# Altium footprint library RFModule.PcbLib: 6 footprints
Each footprint in its own frame and in the unit in brackets; x right, y up, seen from the top. Pads: shape width x height; smd on the part's side, far side on the other; paste and mask are expansions set on the pad; w line width, h text height; cw(c..) or ccw(c..) is an arc to the next point about the centre after c.
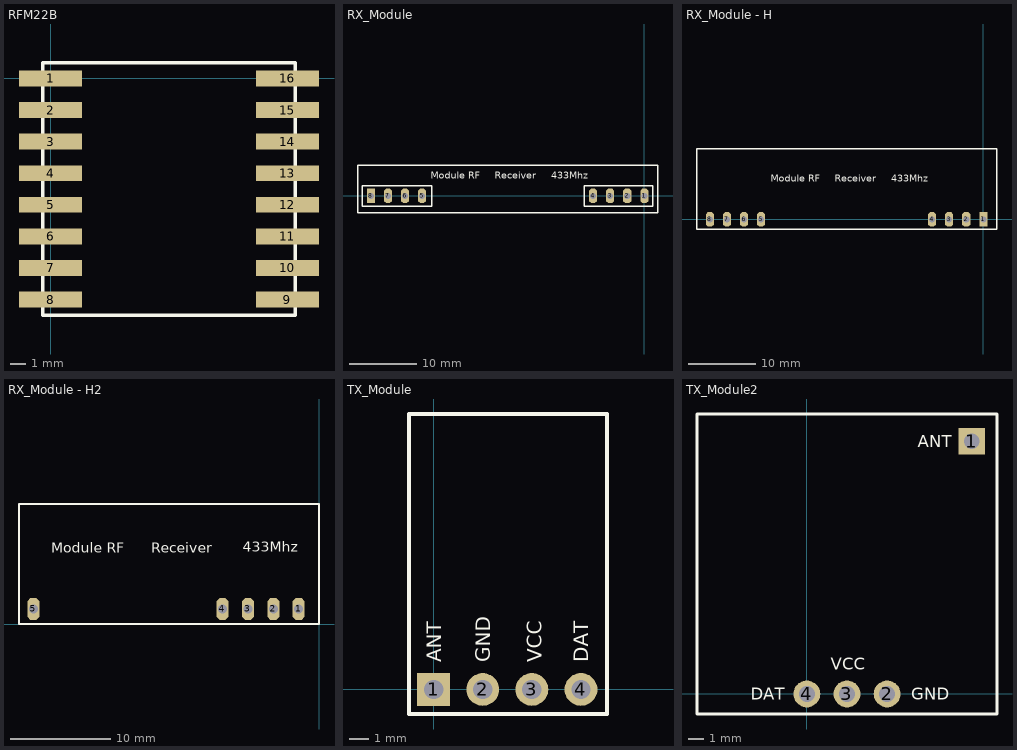
[diagram p0: the footprints below, top view; thin cyan lines are the x and y axes]

## RFM22B [mm] "DIP; 8 Leads; Row Spacing 7.62 mm; Pitch 2.54 mm"
height 5.09
pads (16):
  rect 4x1 smd: 1(0,0) 2(0,-2) 3(0,-4) 4(0,-6) 5(0,-8) 6(0,-10) 7(0,-12) 8(0,-14) 9(15,-14) 10(15,-12) 11(15,-10) 12(15,-8) 13(15,-6) 14(15,-4) 15(15,-2) 16(15,0)
Top Overlay:
  lines w0.2: -0.5,-15 -0.5,1 15.5,1 15.5,-15 -0.5,-15

## RX_Module [mm] "DIP; 8 Leads; Row Spacing 7.62 mm; Pitch 2.54 mm"
height 5.09
pads (8):
  oct 1.2x2.2 hole 0.9: 1(0,0) 2(-2.54,0) 3(-5.08,0) 4(-7.62,0) 5(-33.02,0) 6(-35.56,0) 7(-38.1,0)
  rect 1.2x2.2 hole 0.9: 8(-40.64,0)
Top Overlay:
  lines w0.2: -42.545,-2.54 2.032,-2.54 2.032,4.572 -42.545,4.572 -42.545,-2.54 ; -41.91,-1.524 -31.623,-1.524 -31.623,1.524 -41.91,1.524 -41.91,-1.524 ; -8.89,-1.524 1.27,-1.524 1.27,1.524 -8.89,1.524 -8.89,-1.524
  text "433Mhz" at -13.843,2.54 h1.02
  text "Receiver" at -22.225,2.54 h1.02
  text "Module RF" at -31.75,2.54 h1.02

## RX_Module - H [mm] "DIP; 8 Leads; Row Spacing 7.62 mm; Pitch 2.54 mm"
height 5.09
pads (8):
  rect 1.2x2.2 hole 0.9: 1(0,0)
  oct 1.2x2.2 hole 0.9: 2(-2.54,0) 3(-5.08,0) 4(-7.62,0) 5(-33.02,0) 6(-35.56,0) 7(-38.1,0) 8(-40.64,0)
Top Overlay:
  lines w0.2: -42.545,-1.5 2.032,-1.5 2.032,10.5 -42.545,10.5 -42.545,-1.5
  text "433Mhz" at -13.716,5.588 h1.02
  text "Receiver" at -22.098,5.588 h1.02
  text "Module RF" at -31.623,5.588 h1.02

## RX_Module - H2 [mm] "DIP; 8 Leads; Row Spacing 7.62 mm; Pitch 2.54 mm"
height 5.09
pads (5):
  oct 1.2x2.2 hole 0.9: 1(-2.032,1.524) 2(-4.572,1.524) 3(-7.112,1.524) 4(-9.652,1.524) 5(-28.575,1.524)
Top Overlay:
  lines w0.2: -30,12 -30,0 0,0 ; -30,12.024 0,12.024 0,0.024
  text "433Mhz" at -7.62,7.239 h1.02
  text "Receiver" at -16.764,7.112 h1.02
  text "Module RF" at -26.797,7.112 h1.02

## TX_Module [mm] "DIP; 8 Leads; Row Spacing 7.62 mm; Pitch 2.54 mm"
height 5.09
pads (4):
  rect 1.7x1.7 hole 1: 1(0,0)
  round 1.7 hole 1: 2(2.54,0) 3(5.08,0) 4(7.62,0)
Top Overlay:
  lines w0.2: -1.27,-1.27 8.96,-1.27 8.96,14.25 -1.27,14.25 -1.27,-1.27
  text "DAT" at 8.001,1.397 h0.76
  text "ANT" at 0.381,1.397 h0.76
  text "VCC" at 5.588,1.397 h0.76
  text "GND" at 2.921,1.397 h0.76

## TX_Module2 [mm] "DIP; 8 Leads; Row Spacing 7.62 mm; Pitch 2.54 mm"
height 5.09
pads (4):
  rect 1.7x1.7 hole 1: 1(10.439,16.002)
  round 1.7 hole 1: 2(5.08,0) 3(2.54,0) 4(0,0)
Top Overlay:
  lines w0.2: -6.96,-1.27 -6.96,17.73 12.04,17.73 12.04,-1.27 -6.96,-1.27
  text "GND" at 6.604,-0.381 h0.76
  text "VCC" at 1.524,1.524 h0.76
  text "ANT" at 7.01,15.621 h0.76
  text "DAT" at -3.556,-0.381 h0.76